# Altium schematic symbol library SamacSys.SchLib: 101 symbols (part 1 of 2)
Pins are listed as number, name and electrical type; pins without a type are passive.

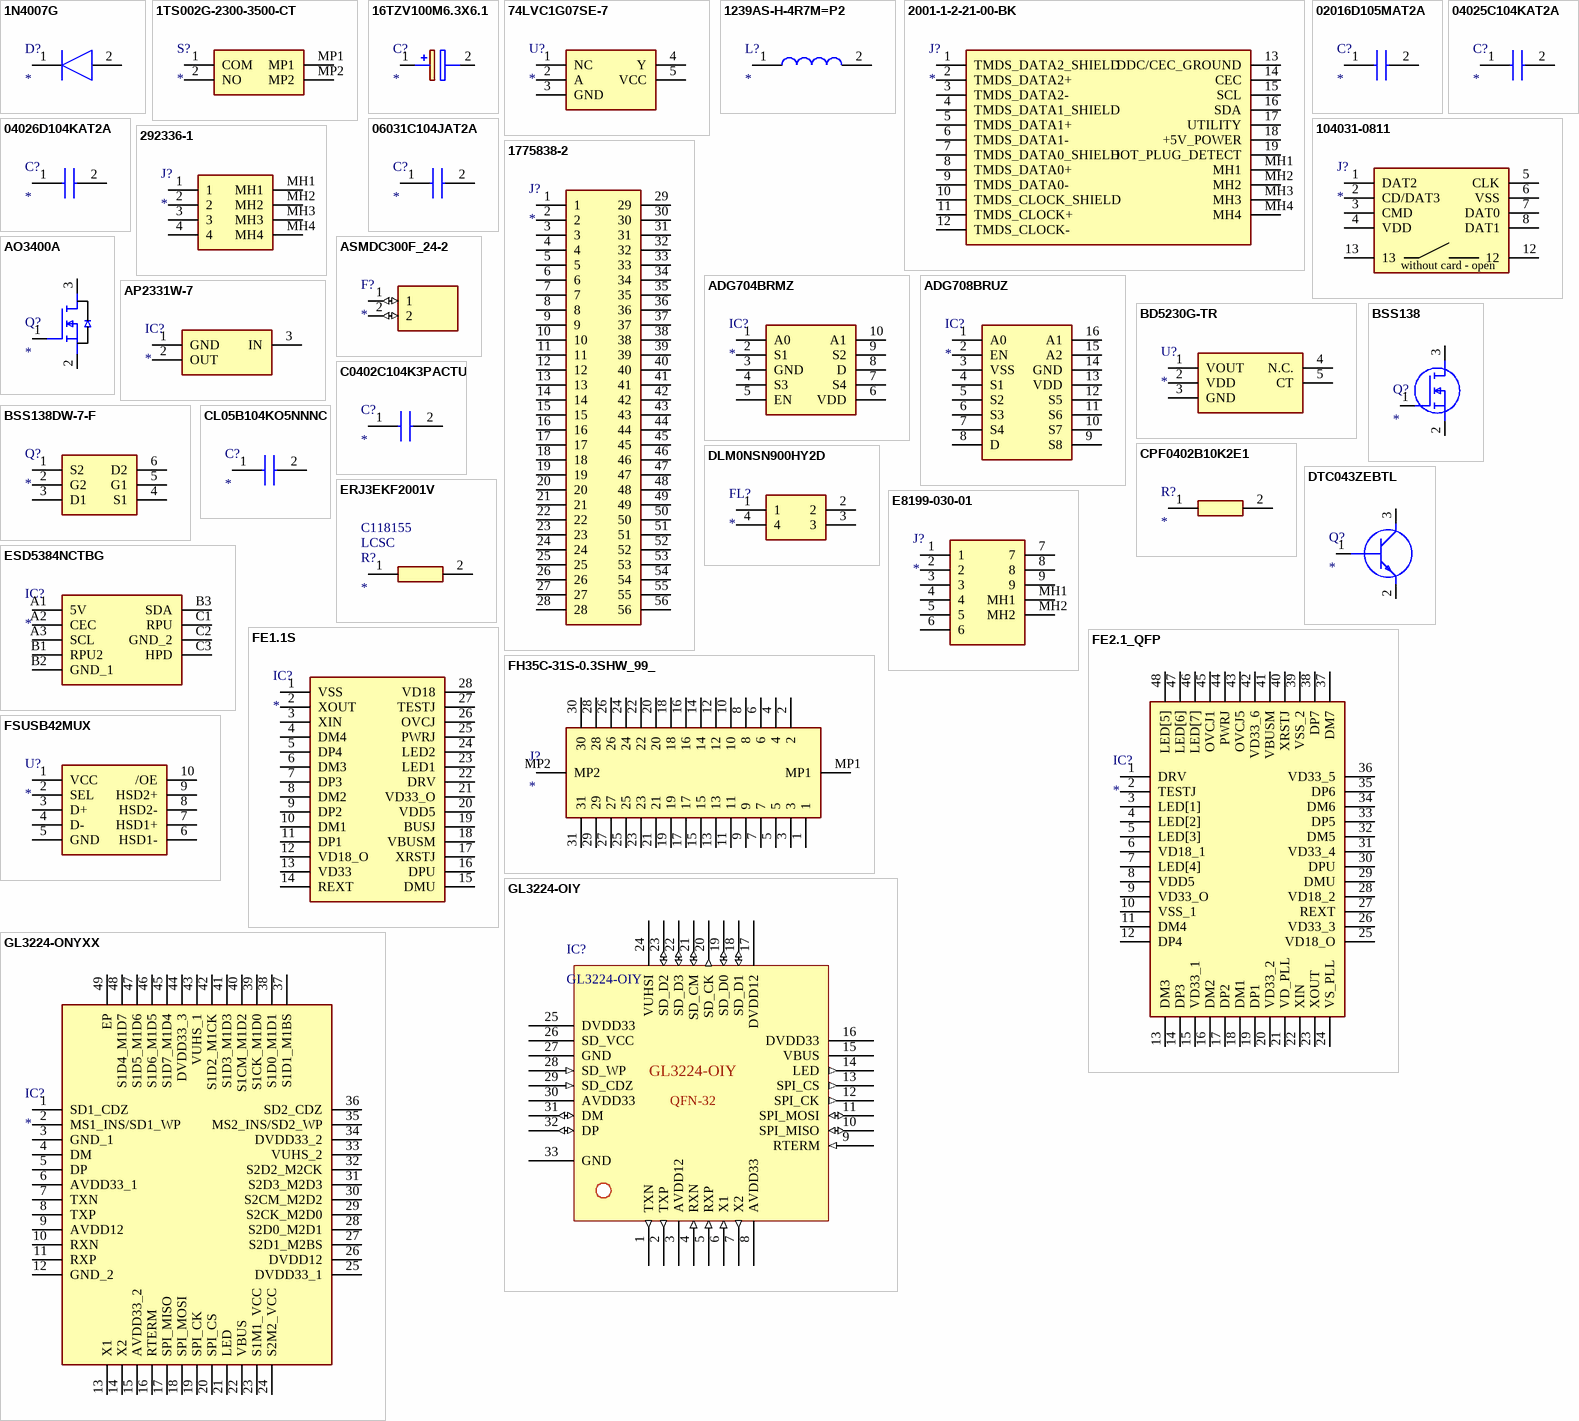
[diagram p0: symbols 1N4007G to GL3224-ONYXX]

## 1N4007G
designator D?
Diode; Manufacturer_Name: Shikues; Manufacturer_Part_Number: 1N4007G; Description: Surface Mount General Purpose Silicon Rectifiers; Datasheet Link: https://datasheet.lcsc.com/szlcsc/SK-1N4007G_C111122.pdf; Height: 2.2mm
footprint DIOM5025X220N
pins: 1 K, 2 A

## 1TS002G-2300-3500-CT
designator S?
Switch; Manufacturer_Name: HYP (Hongyuan Precision); Manufacturer_Part_Number: 1TS002G-2300-3500-CT; Datasheet Link: https://datasheet.lcsc.com/szlcsc/HYP-1TS002G-2300-3500_C319377.pdf; Height: 3.5mm
footprint 1TS002G23003500CT
pins: 1 COM, 2 NO, MP1, MP2

## 16TZV100M6.3X6.1
designator C?
Capacitor Polarised; Manufacturer_Name: Rubycon; Manufacturer_Part_Number: 16TZV100M6.3X6.1; Datasheet Link: http://www.rubycon.co.jp/catalog/j_pdfs/aluminum/j_TZV.pdf; Height: 6.1mm; Mouser Part Number: 232-16TZV100M6.3X6.1; Mouser Price/Stock: https://www.mouser.com/Search/Refine.aspx?Keyword=232-16TZV100M6.3X6.1
footprint 16TZV100M63X61
pins: 1 +, 2 -

## 74LVC1G07SE-7
designator U?
Undefined or Miscellaneous; Manufacturer_Name: Diodes Inc.; Manufacturer_Part_Number: 74LVC1G07SE-7; Datasheet Link: https://componentsearchengine.com/Datasheets/2/74LVC1G07SE-7.pdf; Height: 1.1mm; Mouser Part Number: 621-74LVC1G07SE-7; Mouser Price/Stock: https://www.mouser.co.uk/ProductDetail/Diodes-Incorporated/74LVC1G07SE-7/?qs=abZ1nkZpTuNoZmx9wrxFdA%3D%3D; Arrow Part Number: 74LVC1G07SE-7; Arrow Price/Stock: https://www.arrow.com/en/products/74lvc1g07se-7/diodes-incorporated
footprint SOT65P210X110-5N
pins: 1 NC, 2 A, 3 GND, 4 Y, 5 VCC

## 1239AS-H-4R7M=P2
designator L?
Inductor; Manufacturer_Name: Murata Electronics; Manufacturer_Part_Number: 1239AS-H-4R7M=P2; Datasheet Link: https://psearch.en.murata.com/inductor/product/1239AS-H-4R7M%23.html; Height: 1.2mm; Arrow Part Number: 1239AS-H-4R7M=P2; Arrow Price/Stock: https://www.arrow.com/en/products/1239as-h-4r7mp2/murata-manufacturing; Mouser Part Number: 81-1239AS-H-4R7MP2; Mouser Price/Stock: https://www.mouser.co.uk/ProductDetail/Murata-Electronics/1239AS-H-4R7M%3dP2?qs=KuGPmAKtFKX7SH37MciNXQ%3D%3D
footprint DFE2HCAH1R0MJ0L
pins: 1, 2

## 2001-1-2-21-00-BK
designator J?
Connector; Manufacturer_Name: CNC Tech; Manufacturer_Part_Number: 2001-1-2-21-00-BK; Datasheet Link: http://cnctech.us/pdfs/2001-1-2-21-00-BK.pdf; Height: 3.3mm
footprint 2001122100BK
pins: 1 TMDS_DATA2_SHIELD, 2 TMDS_DATA2+, 3 TMDS_DATA2-, 4 TMDS_DATA1_SHIELD, 5 TMDS_DATA1+, 6 TMDS_DATA1-, 7 TMDS_DATA0_SHIELD, 8 TMDS_DATA0+, 9 TMDS_DATA0-, 10 TMDS_CLOCK_SHIELD, 11 TMDS_CLOCK+, 12 TMDS_CLOCK-, 13 DDC/CEC_GROUND, 14 CEC, 15 SCL, 16 SDA, 17 UTILITY, 18 +5V_POWER, 19 HOT_PLUG_DETECT, MH1, MH2, MH3, MH4

## 02016D105MAT2A
designator C?
Capacitor; Manufacturer_Name: AVX; Manufacturer_Part_Number: 02016D105MAT2A; Datasheet Link: http://www.mouser.com/catalog/supplier/library/pdf/AVXSurfaceMountCeramic.pdf; Height: 0.33mm; Mouser Part Number: 581-02016D105MAT2A; Mouser Price/Stock: https://www.mouser.co.uk/ProductDetail/AVX/02016D105MAT2A?qs=RC%2FTMc7rOJYRv3ejaJ2Ykg%3D%3D; Arrow Part Number: 02016D105MAT2A; Arrow Price/Stock: https://www.arrow.com/en/products/02016d105mat2a/avx
footprint CAPC0603X33N
pins: 1, 2

## 04025C104KAT2A
designator C?
Capacitor; Manufacturer_Name: AVX; Manufacturer_Part_Number: 04025C104KAT2A; Datasheet Link: http://www.mouser.com/catalog/supplier/library/pdf/AVXSurfaceMountCeramic.pdf; Height: 0.56mm; Mouser Part Number: 581-04025C104KAT2A; Mouser Price/Stock: https://www.mouser.co.uk/ProductDetail/AVX/04025C104KAT2A?qs=ZBeOGGPQgEFYcwOskjAIVQ%3D%3D; Arrow Part Number: 04025C104KAT2A; Arrow Price/Stock: https://www.arrow.com/en/products/04025c104kat2a/avx
footprint CAPC1005X56N
pins: 1, 2

## 04026D104KAT2A
designator C?
Capacitor; Manufacturer_Name: AVX; Manufacturer_Part_Number: 04026D104KAT2A; Datasheet Link: http://www.mouser.com/catalog/supplier/library/pdf/AVXSurfaceMountCeramic.pdf; Height: 0.56mm; Mouser Part Number: 581-04026D104KAT2A; Mouser Price/Stock: https://www.mouser.co.uk/ProductDetail/AVX/04026D104KAT2A?qs=LLG2yGGJ5NhILwMziGI8Xg%3D%3D; Arrow Part Number: 04026D104KAT2A; Arrow Price/Stock: https://www.arrow.com/en/products/04026d104kat2a/avx
footprint CAPC1005X56N
pins: 1, 2

## 06031C104JAT2A
designator C?
Capacitor; Manufacturer_Name: AVX; Manufacturer_Part_Number: 06031C104JAT2A; Datasheet Link: https://componentsearchengine.com/Datasheets/1/06031A100FAT2A.pdf; Height: 0.9mm; Mouser Part Number: 581-06031C104JAT2A; Mouser Price/Stock: https://www.mouser.co.uk/ProductDetail/AVX/06031C104JAT2A?qs=%252BdQmOuGyFcHScrgcFLN%252BzA%3D%3D; Arrow Part Number: 06031C104JAT2A; Arrow Price/Stock: https://www.arrow.com/en/products/06031c104jat2a/avx
footprint CAPC1608X90N
pins: 1, 2

## 104031-0811
designator J?
Connector; Manufacturer_Name: Molex; Manufacturer_Part_Number: 104031-0811; Datasheet Link: http://www.molex.com/webdocs/datasheets/pdf/en-us/1040310811_MEMORY_CARD_SOCKET.pdf; Mouser Part Number: 538-104031-0811; Mouser Price/Stock: https://www.mouser.co.uk/ProductDetail/Molex/104031-0811?qs=udsGRKD4nA3Tvy7wqky%252BuA%3D%3D
footprint 1040310811
pins: 1 DAT2, 2 CD/DAT3, 3 CMD, 4 VDD, 5 CLK, 6 VSS, 7 DAT0, 8 DAT1, 12, 13
text: without card - open

## 292336-1
designator J?
Connector; Manufacturer_Name: TE Connectivity; Manufacturer_Part_Number: 292336-1; Allied_Number: 70087057; Datasheet Link: https://componentsearchengine.com/Datasheets/2/292336-1.pdf; Height: 12.6mm; Mouser Part Number: 571-292336-1; Mouser Price/Stock: https://www.mouser.com/Search/Refine.aspx?Keyword=571-292336-1; RS Part Number: 5298230P; RS Price/Stock: http://uk.rs-online.com/web/p/products/5298230P; Allied Price/Stock: https://www.alliedelec.com/teconnectivity-292336-1/70087057/
footprint 2923361
pins: 1, 2, 3, 4, MH1, MH2, MH3, MH4

## 1775838-2
designator J?
Connector; Manufacturer_Name: TE Connectivity; Manufacturer_Part_Number: 1775838-2; Datasheet Link: http://www.te.com/commerce/DocumentDelivery/DDEController?Action=showdoc&DocId=Customer+Drawing%7F1775838%7FH%7Fpdf%7FEnglish%7FENG_CD_1775838_H.pdf%7F1775838-2; Height: 5mm; Mouser Part Number: 571-1775838-2; Mouser Price/Stock: https://www.mouser.com/Search/Refine.aspx?Keyword=571-1775838-2; RS Part Number: 1859871; RS Price/Stock: http://uk.rs-online.com/web/p/products/1859871
footprint 17758382
pins: 1, 2, 3, 4, 5, 6, 7, 8, 9, 10, 11, 12, 13, 14, 15, 16, 17, 18, 19, 20, 21, 22, 23, 24, 25, 26, 27, 28, 29, 30, 31, 32, 33, 34, 35, 36, 37, 38, 39, 40, 41, 42, 43, 44, 45, 46, 47, 48, 49, 50, 51, 52, 53, 54, 55, 56

## ADG704BRMZ
designator IC?
Integrated Circuit; Manufacturer_Name: Analog Devices; Manufacturer_Part_Number: ADG704BRMZ; Datasheet Link: http://docs-emea.rs-online.com/webdocs/077f/0900766b8077ff01.pdf; Height: 1.1mm; Mouser Part Number: 584-ADG704BRMZ; Mouser Price/Stock: https://www.mouser.com/Search/Refine.aspx?Keyword=584-ADG704BRMZ; RS Part Number: 5238761P; RS Price/Stock: http://uk.rs-online.com/web/p/products/5238761P
footprint SOP50P490X110-10N
pins: 1 A0, 2 S1, 3 GND (power), 4 S3, 5 EN, 6 VDD (power), 7 S4, 8 D, 9 S2, 10 A1

## ADG708BRUZ
designator IC?
Integrated Circuit; Manufacturer_Name: Analog Devices; Manufacturer_Part_Number: ADG708BRUZ; Datasheet Link: http://www.analog.com/static/imported-files/data_sheets/ADG708_709.pdf; Height: 1.2mm; Mouser Part Number: 584-ADG708BRUZ; Mouser Price/Stock: https://www.mouser.com/Search/Refine.aspx?Keyword=584-ADG708BRUZ; RS Part Number: 4973918P; RS Price/Stock: http://uk.rs-online.com/web/p/products/4973918P
footprint SOP65P640X120-16N
pins: 1 A0, 2 EN, 3 VSS (power), 4 S1, 5 S2, 6 S3, 7 S4, 8 D, 9 S8, 10 S7, 11 S6, 12 S5, 13 VDD (power), 14 GND (power), 15 A2, 16 A1

## AO3400A
designator Q?
MOSFET (N-Channel); Manufacturer_Name: Alpha & Omega Semiconductors; Manufacturer_Part_Number: AO3400A; Description: 30V N-Channel MOSFET; Datasheet Link: http://aosmd.com/res/data_sheets/AO3400A.pdf; Height: 1.25mm; Arrow Part Number: AO3400A; Arrow Price/Stock: https://www.arrow.com/en/products/ao3400a/alpha-and-omega-semiconductor
footprint SOT95P280X125-3N
pins: 1 G, 2 S, 3 D

## AP2331W-7
designator IC?
Integrated Circuit; Manufacturer_Name: Diodes Inc.; Manufacturer_Part_Number: AP2331W-7; Datasheet Link: https://componentsearchengine.com/Datasheets/1/AP2331W-7.pdf; Height: 1.3mm; Mouser Part Number: 621-AP2331W-7; Mouser Price/Stock: https://www.mouser.com/Search/Refine.aspx?Keyword=621-AP2331W-7; RS Part Number: 8287665P; RS Price/Stock: http://uk.rs-online.com/web/p/products/8287665P
footprint SOT95P285X130-3N
pins: 1 GND, 2 OUT, 3 IN

## ASMDC300F_24-2
designator F?
Fuse; Manufacturer_Name: LITTELFUSE; Manufacturer_Part_Number: ASMDC300F/24-2; Datasheet Link: https://www.littelfuse.com/~/media/electronics/product_specifications/resettable_ptcs/littelfuse_ptc_asmdc300f24_product_specification.pdf.pdf; Height: 1.1mm; Mouser Part Number: 650-ASMDC300F/24-2; Mouser Price/Stock: https://www.mouser.com/Search/Refine.aspx?Keyword=650-ASMDC300F%2F24-2
footprint FUSC7551X110N
pins: 1 (io), 2 (io)

## BD5230G-TR
designator U?
Undefined or Miscellaneous; Manufacturer_Name: ROHM Semiconductor; Manufacturer_Part_Number: BD5230G-TR; Allied_Number: 70521933; Datasheet Link: http://rohmfs.rohm.com/en/products/databook/datasheet/ic/power/voltage_detector/bd52xxg-e.pdf; Height: 1.25mm; Mouser Part Number: 755-BD5230G-TR; Mouser Price/Stock: https://www.mouser.com/Search/Refine.aspx?Keyword=755-BD5230G-TR; RS Part Number: 7003132P; RS Price/Stock: http://uk.rs-online.com/web/p/products/7003132P; Allied Price/Stock: https://www.alliedelec.com/rohm-semiconductor-bd5230g-tr/70521933/
footprint SOT95P280X125-5N
pins: 1 VOUT, 2 VDD, 3 GND, 4 N.C., 5 CT

## BSS138
designator Q?
MOSFET (N-Channel); Manufacturer_Name: ON Semiconductor; Manufacturer_Part_Number: BSS138; Datasheet Link: https://www.onsemi.com/pub/Collateral/BSS138-D.PDF; Height: 1.2mm; Mouser Part Number: 512-BSS138; Mouser Price/Stock: https://www.mouser.com/Search/Refine.aspx?Keyword=512-BSS138; RS Part Number: 6710324P; RS Price/Stock: http://uk.rs-online.com/web/p/products/6710324P
footprint SOT95P240X120-3N
pins: 1 G, 2 S, 3 D

## BSS138DW-7-F
designator Q?
Transistor; Manufacturer_Name: Diodes Inc.; Manufacturer_Part_Number: BSS138DW-7-F; Datasheet Link: http://uk.rs-online.com/web/p/products/1219436; Height: 1.1mm; Arrow Part Number: BSS138DW-7-F; Arrow Price/Stock: https://www.arrow.com/en/products/bss138dw-7-f/diodes-incorporated; Mouser Part Number: 621-BSS138DW-F; Mouser Price/Stock: https://www.mouser.co.uk/ProductDetail/Diodes-Incorporated/BSS138DW-7-F?qs=rGAXPo9uwV10UlZnPRLyGg%3D%3D
footprint SOT65P210X110-6N
pins: 1 S2, 2 G2, 3 D1, 4 S1, 5 G1, 6 D2

## C0402C104K3PACTU
designator C?
Capacitor; Manufacturer_Name: Kemet; Manufacturer_Part_Number: C0402C104K3PACTU; Datasheet Link: https://content.kemet.com/datasheets/KEM_C1002_X7R_SMD.pdf; Height: 0.55mm; Mouser Part Number: 80-C0402C104K3P; Mouser Price/Stock: https://www.mouser.co.uk/ProductDetail/KEMET/C0402C104K3PACTU?qs=gt1LBUVyoHnkmt1KfrmtmQ%3D%3D; Arrow Part Number: C0402C104K3PACTU; Arrow Price/Stock: https://www.arrow.com/en/products/c0402c104k3pactu/kemet-corporation
footprint CAPC1005X55N
pins: 1, 2

## CL05B104KO5NNNC
designator C?
Capacitor; Manufacturer_Name: Samsung Electro-Mechanics; Manufacturer_Part_Number: CL05B104KO5NNNC; Datasheet Link: http://www.samsungsem.com/kr/support/product-search/mlcc/CL05B104KO5NNNC.jsp; Height: 0.55mm; Mouser Part Number: N/A; Mouser Price/Stock: https://www.mouser.com/Search/Refine.aspx?Keyword=N%2FA; RS Part Number: 7661299; RS Price/Stock: http://uk.rs-online.com/web/p/products/7661299
footprint CAPC1005X55N
pins: 1, 2

## CPF0402B10K2E1
designator R?
Resistor; Manufacturer_Name: TE Connectivity; Manufacturer_Part_Number: CPF0402B10K2E1; Allied_Number: 70286155; Datasheet Link: http://www.farnell.com/datasheets/1786775.pdf; Height: 0.35mm; Mouser Part Number: 279-CPF0402B10K2E1; Mouser Price/Stock: https://www.mouser.com/Search/Refine.aspx?Keyword=279-CPF0402B10K2E1; RS Part Number: 7015028P; RS Price/Stock: http://uk.rs-online.com/web/p/products/7015028P; Allied Price/Stock: https://www.alliedelec.com/te-connectivity-cpf0402b10k2e1/70286155/
footprint RESC1005X35N
pins: 1, 2

## DLM0NSN900HY2D
designator FL?
Filter; Manufacturer_Name: Murata Electronics; Manufacturer_Part_Number: DLM0NSN900HY2D; Datasheet Link: https://www.murata.com/en-us/products/productdetail?partno=DLM0NSN900HY2%23; Height: 0.5mm; Arrow Part Number: DLM0NSN900HY2D; Arrow Price/Stock: https://www.arrow.com/en/products/dlm0nsn900hy2d/murata-manufacturing; Mouser Part Number: 81-DLM0NSN900HY2D; Mouser Price/Stock: https://www.mouser.co.uk/ProductDetail/Murata-Electronics/DLM0NSN900HY2D?qs=lEfY3O89AqnvSXN6mgZhNw%3D%3D
footprint DLM0NSB120HY2B
pins: 1, 2, 3, 4

## DTC043ZEBTL
designator Q?
Transistor BJT NPN; Manufacturer_Name: ROHM Semiconductor; Manufacturer_Part_Number: DTC043ZEBTL; Datasheet Link: http://rohmfs.rohm.com/en/products/databook/datasheet/discrete/transistor/digital/dtc043zmt2l-e.pdf; Height: 0.85mm; Arrow Part Number: DTC043ZEBTL; Mouser Part Number: 755-DTC043ZEBTL; Mouser Price/Stock: https://www.mouser.co.uk/ProductDetail/ROHM-Semiconductor/DTC043ZEBTL?qs=n7vHx8wJlDGyWrBOh0icRQ%3D%3D
footprint SOTFL50P160X85-3N
pins: 1 B, 2 E, 3 C

## E8199-030-01
designator J?
Connector; Manufacturer_Name: Pulse; Manufacturer_Part_Number: E8199-030-01; Datasheet Link: https://productfinder.pulseeng.com/doc_type/WEB301/doc_num/E8199-030-01/doc_part/E8199-030-01.pdf; Height: 12.9mm; Mouser Part Number: 673-E8199-030-01; Mouser Price/Stock: https://www.mouser.co.uk/ProductDetail/Pulse-Electronics/E8199-030-01?qs=fi7yB2oewZks%2FMZaaPk%2FJA%3D%3D; Arrow Part Number: E8199-030-01; Arrow Price/Stock: https://www.arrow.com/en/products/e8199-030-01/pulse-electronics-corporation
footprint E819903001
pins: 1, 2, 3, 4, 5, 6, 7, 8, 9, MH1, MH2

## ERJ3EKF2001V
designator R?  Supplier 1: LCSC  Supplier Part Number 1: C118155
Resistor; Manufacturer_Name: Panasonic; Manufacturer_Part_Number: ERJ3EKF2001V; Allied_Number: 70264628; Datasheet Link: http://industrial.panasonic.com/cdbs/www-data/pdf/RDA0000/AOA0000C86.pdf; Height: 0.55mm; RS Part Number: 1058464; RS Price/Stock: http://uk.rs-online.com/web/p/products/1058464; Allied Price/Stock: https://www.alliedelec.com/panasonic-erj-3ekf2001v/70264628/
footprint RESC1608X55N
pins: 1, 2

## ESD5384NCTBG
designator IC?
Integrated Circuit; Manufacturer_Name: ON Semiconductor; Manufacturer_Part_Number: ESD5384NCTBG; Allied_Number: 70466034; Datasheet Link: http://www.onsemi.com/pub/Collateral/ESD5384-D.PDF; Height: 0.63mm; Mouser Part Number: 863-ESD5384NCTBG; Mouser Price/Stock: https://www.mouser.com/Search/Refine.aspx?Keyword=863-ESD5384NCTBG; RS Part Number: 8010213P; RS Price/Stock: http://uk.rs-online.com/web/p/products/8010213P; Allied Price/Stock: http://www.alliedelec.com/on-semiconductor-esd5384nctbg/70466034/
footprint BGA9C40P3X3_114X114X63
pins: A1 5V, A2 CEC, A3 SCL, B1 RPU2, B2 GND_1 (power), B3 SDA, C1 RPU, C2 GND_2 (power), C3 HPD

## FE1.1S
designator IC?
Integrated Circuit; Manufacturer_Name: JFD IC; Manufacturer_Part_Number: FE1.1S; Datasheet Link: https://cdn-shop.adafruit.com/product-files/2991/FE1.1s+Data+Sheet+(Rev.+1.0).pdf; Height: 1.75mm
footprint SOP64P600X175-28N
pins: 1 VSS, 2 XOUT, 3 XIN, 4 DM4, 5 DP4, 6 DM3, 7 DP3, 8 DM2, 9 DP2, 10 DM1, 11 DP1, 12 VD18_O, 13 VD33, 14 REXT, 15 DMU, 16 DPU, 17 XRSTJ, 18 VBUSM, 19 BUSJ, 20 VDD5, 21 VD33_O, 22 DRV, 23 LED1, 24 LED2, 25 PWRJ, 26 OVCJ, 27 TESTJ, 28 VD18

## FE2.1_QFP
designator IC?
Integrated Circuit; Manufacturer_Name: Terminus Technology; Manufacturer_Part_Number: FE2.1_QFP; Datasheet Link: http://www.35ic.net/ui/docs/assets/img/1458708200035.PDF; Height: 1.6mm
footprint QFP50P900X900X160-48N
pins: 1 DRV, 2 TESTJ, 3 LED[1], 4 LED[2], 5 LED[3], 6 VD18_1, 7 LED[4], 8 VDD5, 9 VD33_O, 10 VSS_1, 11 DM4, 12 DP4, 13 DM3, 14 DP3, 15 VD33_1, 16 DM2, 17 DP2, 18 DM1, 19 DP1, 20 VD33_2, 21 VD_PLL, 22 XIN, 23 XOUT, 24 VS_PLL, 25 VD18_O, 26 VD33_3, 27 REXT, 28 VD18_2, 29 DMU, 30 DPU, 31 VD33_4, 32 DM5, 33 DP5, 34 DM6, 35 DP6, 36 VD33_5, 37 DM7, 38 DP7, 39 VSS_2, 40 XRSTJ, 41 VBUSM, 42 VD33_6, 43 OVCJ5, 44 PWRJ, 45 OVCJ1, 46 LED[7], 47 LED[6], 48 LED[5]

## FH35C-31S-0.3SHW_99_
designator J?
Connector; Manufacturer_Name: Hirose; Manufacturer_Part_Number: FH35C-31S-0.3SHW(99); Datasheet Link: https://www.hirose.com/product/document?clcode=CL0580-2923-7-99&productname=FH35C-31S-0.3SHW(99)&series=FH35C&documenttype=2DDrawing&lang=en&documentid=0001002013; Height: 1.8mm; Mouser Part Number: 798-FH35C31S03SHW99; Mouser Price/Stock: https://www.mouser.com/Search/Refine.aspx?Keyword=798-FH35C31S03SHW99
footprint FH35C31S03SHW99
pins: 1, 2, 3, 4, 5, 6, 7, 8, 9, 10, 11, 12, 13, 14, 15, 16, 17, 18, 19, 20, 21, 22, 23, 24, 25, 26, 27, 28, 29, 30, 31, MP1, MP2

## FSUSB42MUX
designator U?
Undefined or Miscellaneous; Manufacturer_Name: ON Semiconductor; Manufacturer_Part_Number: FSUSB42MUX; Datasheet Link: https://componentsearchengine.com/Datasheets/2/FSUSB42MUX.pdf; Height: 1.1mm; Mouser Part Number: 512-FSUSB42MUX; Mouser Price/Stock: https://www.mouser.com/Search/Refine.aspx?Keyword=512-FSUSB42MUX; RS Part Number: 7395144P; RS Price/Stock: http://uk.rs-online.com/web/p/products/7395144P
footprint SOP50P490X110-10N
pins: 1 VCC, 2 SEL, 3 D+, 4 D-, 5 GND, 6 HSD1-, 7 HSD1+ (power), 8 HSD2-, 9 HSD2+, 10 /OE

## GL3224-OIY
designator IC?
Integrated Ciruit
footprint QFN50P500X500X75_HS-33N (QFN, 32-Leads, Body 5.00x5.00mm, Pitch 0.50mm, Thermal Pad 3.00x3.00mm, IPC Medium Density)
pins: 1 TXN (out), 2 TXP (out), 3 AVDD12 (power), 4 RXN (in), 5 RXP (in), 6 X1 (in), 7 X2 (out), 8 AVDD33 (power), 9 RTERM (in), 10 SPI_MISO (io), 11 SPI_MOSI (io), 12 SPI_CK (out), 13 SPI_CS (out), 14 LED (out), 15 VBUS (power), 16 DVDD33 (power), 17 DVDD12 (power), 18 SD_D1 (io), 19 SD_D0 (io), 20 SD_CK (out), 21 SD_CM (io), 22 SD_D3 (io), 23 SD_D2 (io), 24 VUHSI (power), 25 DVDD33 (power), 26 SD_VCC (power), 27 GND (power), 28 SD_WP (in), 29 SD_CDZ (in), 30 AVDD33 (power), 31 DM (io), 32 DP (io), 33 GND
text: QFN-32

## GL3224-ONYXX
designator IC?
Integrated Circuit; Manufacturer_Name: Genesys; Manufacturer_Part_Number: GL3224-ONYXX; Datasheet Link: http://www.image.micros.com.pl/_dane_techniczne_auto/uigl3224-oiy.pdf; Height: 0.8mm
footprint QFN50P700X700X80-49N
pins: 1 SD1_CDZ, 2 MS1_INS/SD1_WP, 3 GND_1, 4 DM, 5 DP, 6 AVDD33_1, 7 TXN, 8 TXP, 9 AVDD12, 10 RXN, 11 RXP, 12 GND_2, 13 X1, 14 X2, 15 AVDD33_2, 16 RTERM, 17 SPI_MISO, 18 SPI_MOSI, 19 SPI_CK, 20 SPI_CS, 21 LED, 22 VBUS, 23 S1M1_VCC, 24 S2M2_VCC, 25 DVDD33_1, 26 DVDD12, 27 S2D1_M2BS, 28 S2D0_M2D1, 29 S2CK_M2D0, 30 S2CM_M2D2, 31 S2D3_M2D3, 32 S2D2_M2CK, 33 VUHS_2, 34 DVDD33_2, 35 MS2_INS/SD2_WP, 36 SD2_CDZ, 37 S1D1_M1BS, 38 S1D0_M1D1, 39 S1CK_M1D0, 40 S1CM_M1D2, 41 S1D3_M1D3, 42 S1D2_M1CK, 43 VUHS_1, 44 DVDD33_3, 45 S1D7_M1D4, 46 S1D6_M1D5, 47 S1D5_M1D6, 48 S1D4_M1D7, 49 EP

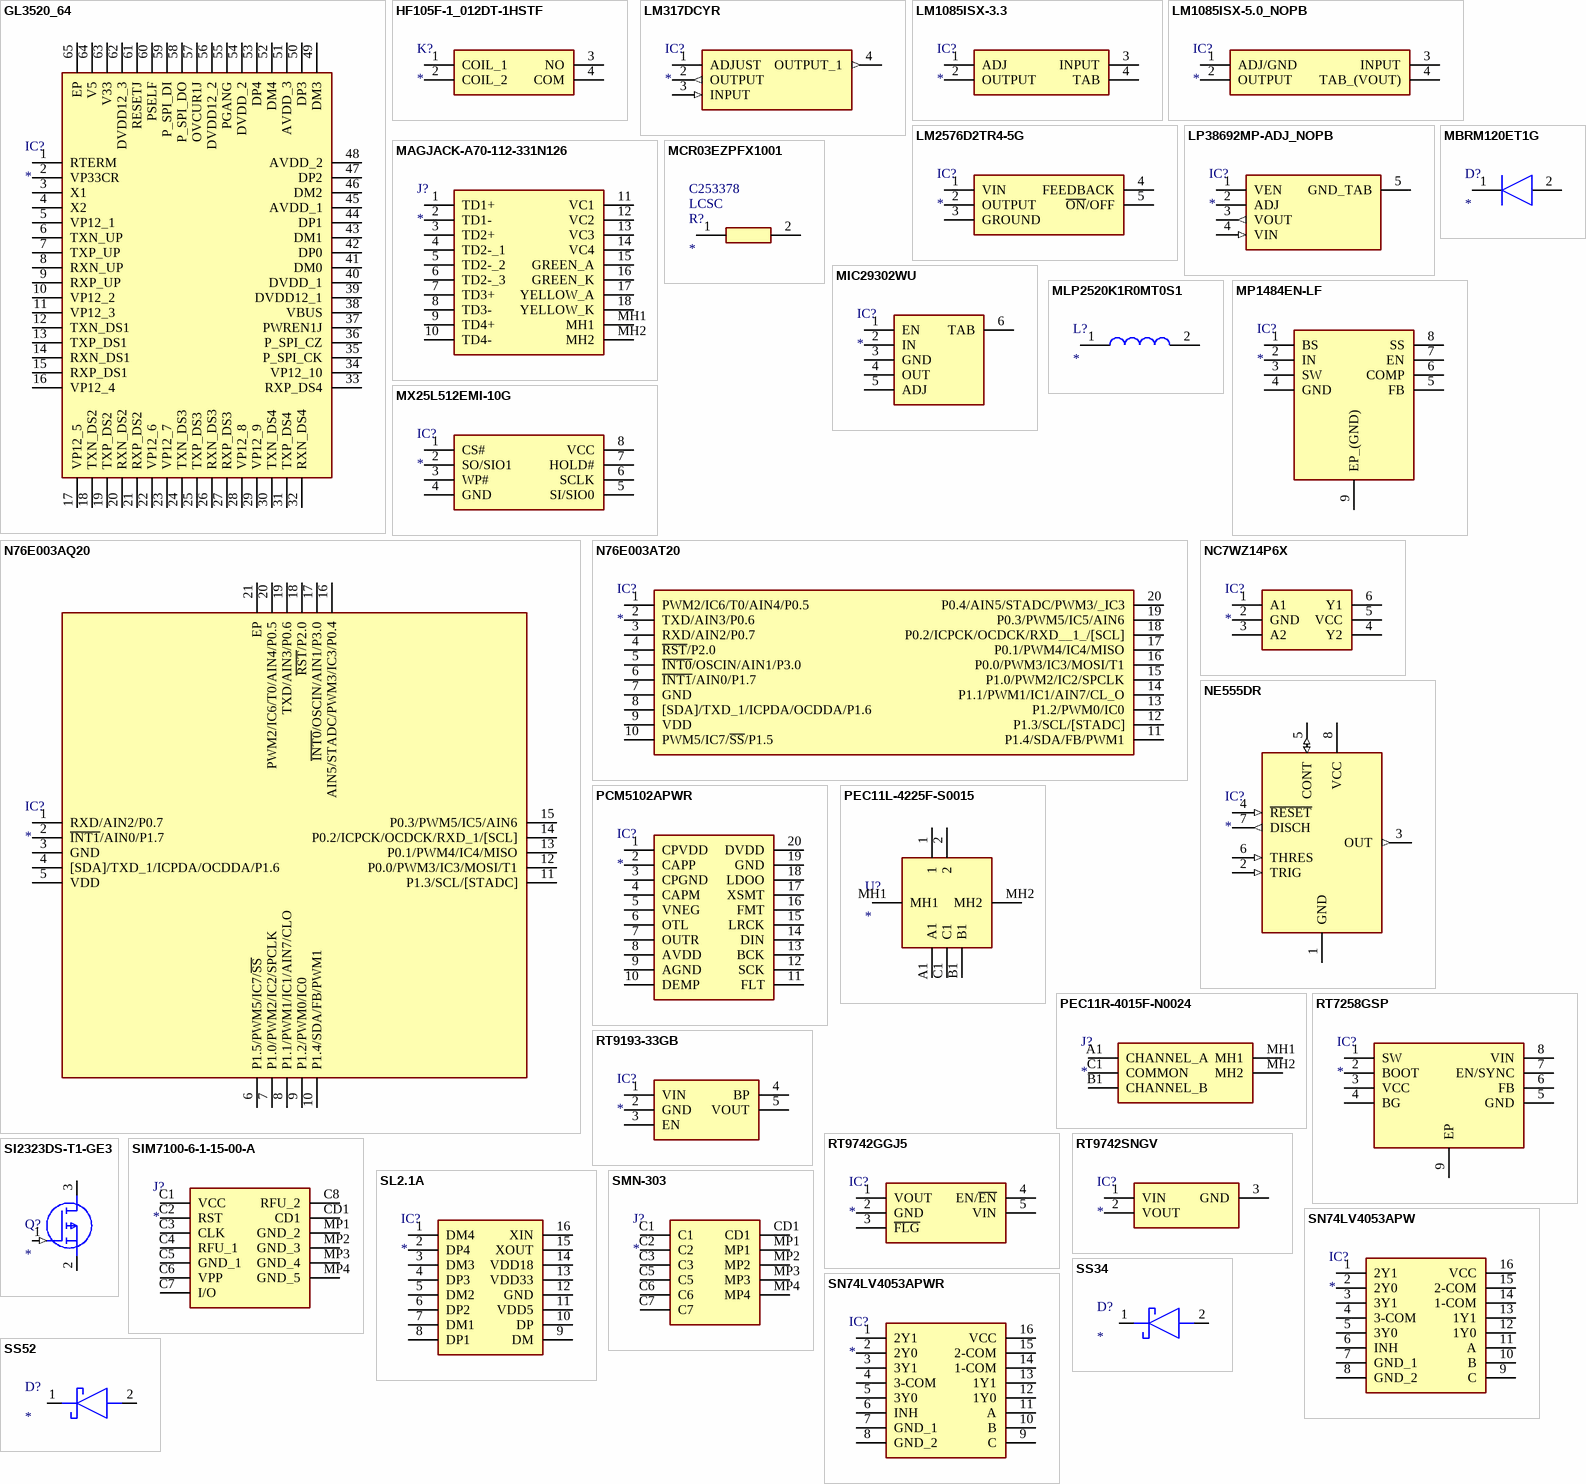
[diagram p1: symbols GL3520_64 to SS52]

## GL3520_64
designator IC?
Integrated Circuit; Manufacturer_Name: Genesys; Manufacturer_Part_Number: GL3520 64; Datasheet Link: https://datasheet.lcsc.com/szlcsc/Genesys-Logic-GL3520-OVY22_C136620.pdf; Height: 0.8mm
footprint QFN40P800X800X80-65N-D
pins: 1 RTERM, 2 VP33CR, 3 X1, 4 X2, 5 VP12_1, 6 TXN_UP, 7 TXP_UP, 8 RXN_UP, 9 RXP_UP, 10 VP12_2, 11 VP12_3, 12 TXN_DS1, 13 TXP_DS1, 14 RXN_DS1, 15 RXP_DS1, 16 VP12_4, 17 VP12_5, 18 TXN_DS2, 19 TXP_DS2, 20 RXN_DS2, 21 RXP_DS2, 22 VP12_6, 23 VP12_7, 24 TXN_DS3, 25 TXP_DS3, 26 RXN_DS3, 27 RXP_DS3, 28 VP12_8, 29 VP12_9, 30 TXN_DS4, 31 TXP_DS4, 32 RXN_DS4, 33 RXP_DS4, 34 VP12_10, 35 P_SPI_CK, 36 P_SPI_CZ, 37 PWREN1J, 38 VBUS, 39 DVDD12_1, 40 DVDD_1, 41 DM0, 42 DP0, 43 DM1, 44 DP1, 45 AVDD_1, 46 DM2, 47 DP2, 48 AVDD_2, 49 DM3, 50 DP3, 51 AVDD_3, 52 DM4, 53 DP4, 54 DVDD_2, 55 PGANG, 56 DVDD12_2, 57 OVCUR1J, 58 P_SPI_DO, 59 P_SPI_DI, 60 PSELF, 61 RESETJ, 62 DVDD12_3, 63 V33, 64 V5, 65 EP

## HF105F-1_012DT-1HSTF
designator K?
Relay or Contactor; Manufacturer_Name: Hongfa; Manufacturer_Part_Number: HF105F-1/012DT-1HSTF; Datasheet Link: https://4donline.ihs.com/images/VipMasterIC/IC/XIMD/XIMD-S-A0007315443/XIMD-S-A0007315443-1.pdf?hkey=EF798316E3902B6ED9A73243A3159BB0; Height: 20.2mm
footprint HF105F1012DT1HSTF
pins: 1 COIL_1, 2 COIL_2, 3 NO, 4 COM

## LM317DCYR
designator IC?
Integrated Circuit; Manufacturer_Name: Texas Instruments; Manufacturer_Part_Number: LM317DCYR; Datasheet Link: http://www.ti.com/lit/ds/symlink/lm317.pdf; Height: 1.8mm; Mouser Part Number: 595-LM317DCYR; Mouser Price/Stock: https://www.mouser.com/Search/Refine.aspx?Keyword=595-LM317DCYR; RS Part Number: 6613627P; RS Price/Stock: http://uk.rs-online.com/web/p/products/6613627P
footprint SOT230P700X180-4N
pins: 1 ADJUST, 2 OUTPUT (out), 3 INPUT (in), 4 OUTPUT_1 (out)

## LM1085ISX-3.3
designator IC?
Integrated Circuit; Manufacturer_Name: Texas Instruments; Manufacturer_Part_Number: LM1085ISX-3.3; Datasheet Link: http://www.ti.com/lit/ds/symlink/lm1085.pdf; Mouser Part Number: 926-LM1085ISX-33; Mouser Price/Stock: https://www.mouser.com/Search/Refine.aspx?Keyword=926-LM1085ISX-33
footprint KTT0003B
pins: 1 ADJ, 2 OUTPUT, 3 INPUT, 4 TAB

## LM1085ISX-5.0_NOPB
designator IC?
Integrated Circuit; Manufacturer_Name: Texas Instruments; Manufacturer_Part_Number: LM1085ISX-5.0/NOPB; Datasheet Link: http://www.ti.com/lit/gpn/lm1085; Mouser Part Number: 926-LM1085ISX50NOPB; Mouser Price/Stock: https://www.mouser.com/Search/Refine.aspx?Keyword=926-LM1085ISX50NOPB
footprint KTT0003B
pins: 1 ADJ/GND, 2 OUTPUT, 3 INPUT, 4 TAB_(VOUT)

## LM2576D2TR4-5G
designator IC?
Integrated Circuit; Manufacturer_Name: ON Semiconductor; Manufacturer_Part_Number: LM2576D2TR4-5G; Datasheet Link: http://www.mouser.com/ds/2/308/LM2576-D-75194.pdf; Mouser Part Number: 863-LM2576D2TR4-5G; Mouser Price/Stock: https://www.mouser.com/Search/Refine.aspx?Keyword=863-LM2576D2TR4-5G; RS Part Number: 1869624P; RS Price/Stock: http://uk.rs-online.com/web/p/products/1869624P
footprint D2TSUFFIX-CASE936A-02-ISSUEC
pins: 1 VIN, 2 OUTPUT, 3 GROUND, 4 FEEDBACK, 5 ~{ON}/OFF

## LP38692MP-ADJ_NOPB
designator IC?
Integrated Circuit; Manufacturer_Name: Texas Instruments; Manufacturer_Part_Number: LP38692MP-ADJ/NOPB; Datasheet Link: http://www.ti.com/lit/ds/symlink/lp38692-adj.pdf; Height: 1.8mm; Mouser Part Number: 926-38692MP-ADJ/NOPB; Mouser Price/Stock: https://www.mouser.com/Search/Refine.aspx?Keyword=926-38692MP-ADJ%2FNOPB; RS Part Number: 5379171P; RS Price/Stock: http://uk.rs-online.com/web/p/products/5379171P
footprint SOT150P700X180-5N
pins: 1 VEN, 2 ADJ, 3 VOUT (out), 4 VIN (in), 5 GND_TAB (power)

## MAGJACK-A70-112-331N126
designator J?
Connector; Manufacturer_Name: Bel Magnetic Solutions; Manufacturer_Part_Number: MAGJACK-A70-112-331N126; Datasheet Link: http://www.link-pp.com/upload/file/20180411/20180411182938293829.pdf; Height: 13.3mm
footprint MAGJACKA70112331N126
pins: 1 TD1+, 2 TD1-, 3 TD2+, 4 TD2-_1, 5 TD2-_2, 6 TD2-_3, 7 TD3+, 8 TD3-, 9 TD4+, 10 TD4-, 11 VC1, 12 VC2, 13 VC3, 14 VC4, 15 GREEN_A, 16 GREEN_K, 17 YELLOW_A, 18 YELLOW_K, MH1, MH2

## MBRM120ET1G
designator D?
Diode; Manufacturer_Name: ON Semiconductor; Manufacturer_Part_Number: MBRM120ET1G; Datasheet Link: https://www.onsemi.com/pub/Collateral/MBRM120E-D.PDF; Arrow Part Number: MBRM120ET1G; Arrow Price/Stock: https://www.arrow.com/en/products/mbrm120et1g/on-semiconductor; Mouser Part Number: 863-MBRM120ET1G; Mouser Price/Stock: https://www.mouser.co.uk/ProductDetail/ON-Semiconductor/MBRM120ET1G?qs=3JMERSakeboGhtO%252BnVDl7w%3D%3D
footprint MBRM110LT1G
pins: 1 K, 2 A

## MCR03EZPFX1001
designator R?  Supplier 1: LCSC  Supplier Part Number 1: C253378
Resistor; Manufacturer_Name: ROHM Semiconductor; Manufacturer_Part_Number: MCR03EZPFX1001; Datasheet Link: http://docs-emea.rs-online.com/webdocs/1471/0900766b814716e9.pdf; Height: 0.55mm; RS Part Number: 9013553P; RS Price/Stock: http://uk.rs-online.com/web/p/products/9013553P
footprint RESC1608X55N
pins: 1, 2

## MIC29302WU
designator IC?
Integrated Circuit; Manufacturer_Name: Microchip; Manufacturer_Part_Number: MIC29302WU; Datasheet Link: http://docs-emea.rs-online.com/webdocs/13e4/0900766b813e4201.pdf; Mouser Part Number: 998-MIC29302WU; Mouser Price/Stock: https://www.mouser.com/Search/Refine.aspx?Keyword=998-MIC29302WU; RS Part Number: 0453574; RS Price/Stock: http://uk.rs-online.com/web/p/products/0453574
footprint 6-PIN-TO-263
pins: 1 EN, 2 IN, 3 GND, 4 OUT, 5 ADJ, 6 TAB

## MLP2520K1R0MT0S1
designator L?
Inductor; Manufacturer_Name: TDK; Manufacturer_Part_Number: MLP2520K1R0MT0S1; Datasheet Link: https://www.arrow.com/en/products/mlp2520k1r0mt0s1/tdk; Height: 1mm; Arrow Part Number: MLP2520K1R0MT0S1; Arrow Price/Stock: https://www.arrow.com/en/products/mlp2520k1r0mt0s1/tdk; Mouser Part Number: 810-MLP2520K1R0MT0S1; Mouser Price/Stock: https://www.mouser.com/Search/Refine.aspx?Keyword=810-MLP2520K1R0MT0S1
footprint INDC2520X100N
pins: 1, 2

## MP1484EN-LF
designator IC?
Integrated Circuit; Manufacturer_Name: Monolithic Power Systems (MPS); Manufacturer_Part_Number: MP1484EN-LF; Datasheet Link: http://www.mouser.com/datasheet/2/277/MP1484-1186021.pdf; Height: 1.7mm; Mouser Part Number: 946-MP1484ENLF; Mouser Price/Stock: https://www.mouser.com/Search/Refine.aspx?Keyword=946-MP1484ENLF
footprint SOIC127P600X170-9N
pins: 1 BS, 2 IN, 3 SW, 4 GND, 5 FB, 6 COMP, 7 EN, 8 SS, 9 EP_(GND)

## MX25L512EMI-10G
designator IC?
Integrated Circuit; Manufacturer_Name: Macronix; Manufacturer_Part_Number: MX25L512EMI-10G; Datasheet Link: https://www.macronix.com/Lists/Datasheet/Attachments/7398/MX25L512E,%203V,%20512Kb,%20v1.4.pdf; Height: 1.75mm; Arrow Part Number: MX25L512EMI-10G; Arrow Price/Stock: https://www.arrow.com/en/products/mx25l512emi-10g/macronix-international
footprint SOIC127P600X175-8N
pins: 1 CS#, 2 SO/SIO1, 3 WP#, 4 GND, 5 SI/SIO0, 6 SCLK, 7 HOLD#, 8 VCC

## N76E003AQ20
designator IC?
Integrated Circuit; Manufacturer_Name: Nuvoton; Manufacturer_Part_Number: N76E003AQ20; Datasheet Link: http://www.nuvoton.com/hq/resource-download.jsp?tp_GUID=DA00-N76E003; Height: 0.8mm
footprint QFN40P300X300X80-21N
pins: 1 RXD/AIN2/P0.7, 2 ~{INT1}/AIN0/P1.7, 3 GND, 4 [SDA]/TXD_1/ICPDA/OCDDA/P1.6, 5 VDD, 6 P1.5/PWM5/IC7/~{SS}, 7 P1.0/PWM2/IC2/SPCLK, 8 P1.1/PWM1/IC1/AIN7/CLO, 9 P1.2/PWM0/IC0, 10 P1.4/SDA/FB/PWM1, 11 P1.3/SCL/[STADC], 12 P0.0/PWM3/IC3/MOSI/T1, 13 P0.1/PWM4/IC4/MISO, 14 P0.2/ICPCK/OCDCK/RXD_1/[SCL], 15 P0.3/PWM5/IC5/AIN6, 16 AIN5/STADC/PWM3/IC3/P0.4, 17 ~{INT0}/OSCIN/AIN1/P3.0, 18 ~{RST}/P2.0, 19 TXD/AIN3/P0.6, 20 PWM2/IC6/T0/AIN4/P0.5, 21 EP

## N76E003AT20
designator IC?
Integrated Circuit; Manufacturer_Name: Nuvoton; Manufacturer_Part_Number: N76E003AT20; Datasheet Link: http://www.nuvoton.com/resource-files/DS_N76E003_EN_Rev1.00.pdf; Height: 1.2mm
footprint SOP65P640X120-20N
pins: 1 PWM2/IC6/T0/AIN4/P0.5, 2 TXD/AIN3/P0.6, 3 RXD/AIN2/P0.7, 4 ~{RST}/P2.0, 5 ~{INT0}/OSCIN/AIN1/P3.0, 6 ~{INT1}/AIN0/P1.7, 7 GND, 8 [SDA]/TXD_1/ICPDA/OCDDA/P1.6, 9 VDD, 10 PWM5/IC7/~{SS}/P1.5, 11 P1.4/SDA/FB/PWM1, 12 P1.3/SCL/[STADC], 13 P1.2/PWM0/IC0, 14 P1.1/PWM1/IC1/AIN7/CL_O, 15 P1.0/PWM2/IC2/SPCLK, 16 P0.0/PWM3/IC3/MOSI/T1, 17 P0.1/PWM4/IC4/MISO, 18 P0.2/ICPCK/OCDCK/RXD__1_/[SCL], 19 P0.3/PWM5/IC5/AIN6, 20 P0.4/AIN5/STADC/PWM3/_IC3

## NC7WZ14P6X
designator IC?
Integrated Circuit; Manufacturer_Name: ON Semiconductor; Manufacturer_Part_Number: NC7WZ14P6X; Datasheet Link: https://componentsearchengine.com/Datasheets/2/NC7WZ14P6X.pdf; Height: 1.1mm; Mouser Part Number: 512-NC7WZ14P6X; Mouser Price/Stock: https://www.mouser.co.uk/ProductDetail/ON-Semiconductor-Fairchild/NC7WZ14P6X?qs=UJgUk%252BlQbC30MX7FYQ6V%252BA%3D%3D; Arrow Part Number: NC7WZ14P6X; Arrow Price/Stock: https://www.arrow.com/en/products/nc7wz14p6x/on-semiconductor
footprint SOT65P210X110-6N
pins: 1 A1, 2 GND, 3 A2, 4 Y2, 5 VCC, 6 Y1

## NE555DR
designator IC?
Integrated Circuit; Manufacturer_Name: Texas Instruments; Manufacturer_Part_Number: NE555DR; Datasheet Link: http://www.ti.com/lit/ds/symlink/ne555.pdf; Height: 1.75mm; Mouser Part Number: 595-NE555DR; Mouser Price/Stock: https://www.mouser.com/Search/Refine.aspx?Keyword=595-NE555DR; RS Part Number: 1218414; RS Price/Stock: http://uk.rs-online.com/web/p/products/1218414
footprint SOIC127P600X175-8N
pins: 1 GND (power), 2 TRIG (in), 3 OUT (out), 4 ~{RESET} (in), 5 CONT (io), 6 THRES (in), 7 DISCH (out), 8 VCC (power)

## PCM5102APWR
designator IC?
Integrated Circuit; Manufacturer_Name: Texas Instruments; Manufacturer_Part_Number: PCM5102APWR; Datasheet Link: https://componentsearchengine.com/Datasheets/2/PCM5102APWR.pdf; Height: 1.2mm; Arrow Part Number: PCM5102APWR; Arrow Price/Stock: https://www.arrow.com/en/products/pcm5102apwr/texas-instruments; Mouser Part Number: 595-PCM5102APWR; Mouser Price/Stock: https://www.mouser.co.uk/ProductDetail/Texas-Instruments/PCM5102APWR?qs=E2%2FxqS9xjzrfECkwEYoiyg%3D%3D
footprint SOP65P640X120-20N
pins: 1 CPVDD, 2 CAPP, 3 CPGND, 4 CAPM, 5 VNEG, 6 OTL, 7 OUTR, 8 AVDD, 9 AGND, 10 DEMP, 11 FLT, 12 SCK, 13 BCK, 14 DIN, 15 LRCK, 16 FMT, 17 XSMT, 18 LDOO, 19 GND, 20 DVDD

## PEC11L-4225F-S0015
designator U?
Undefined or Miscellaneous; Manufacturer_Name: Bourns; Manufacturer_Part_Number: PEC11L-4225F-S0015; Datasheet Link: https://www.mouser.com/datasheet/2/54/pec11l-777793.pdf; Height: 25mm; Mouser Part Number: 652-PEC11L4225FS0015; Mouser Price/Stock: https://www.mouser.com/Search/Refine.aspx?Keyword=652-PEC11L4225FS0015
footprint PEC11L4120FS0020
pins: 1, 2, A1, B1, C1, MH1, MH2

## PEC11R-4015F-N0024
designator J?
Connector; Manufacturer_Name: Bourns; Manufacturer_Part_Number: PEC11R-4015F-N0024; Allied_Number: 70407968; Datasheet Link: https://www.bourns.com/docs/Product-Datasheets/PEC11R.pdf; Height: 22mm; Mouser Part Number: 652-PEC11R-4015F-N24; Mouser Price/Stock: https://www.mouser.com/Search/Refine.aspx?Keyword=652-PEC11R-4015F-N24; RS Part Number: 7816824P; RS Price/Stock: http://uk.rs-online.com/web/p/products/7816824P; Allied Price/Stock: https://www.alliedelec.com/bourns-pec11r-4015f-n0024/70407968/
footprint PEC11R4015FN0024
pins: A1 CHANNEL_A, B1 CHANNEL_B, C1 COMMON, MH1, MH2

## RT7258GSP
designator IC?
Integrated Circuit; Manufacturer_Name: RICHTEK; Manufacturer_Part_Number: RT7258GSP; Datasheet Link: https://www.richtek.com/assets/product_file/RT7258/DS7258-01.pdf; Height: 1.753mm
footprint SOIC127P600X175-9N
pins: 1 SW, 2 BOOT, 3 VCC, 4 BG, 5 GND, 6 FB, 7 EN/SYNC, 8 VIN, 9 EP

## RT9193-33GB
designator IC?
Integrated Circuit; Manufacturer_Name: RICHTEK; Manufacturer_Part_Number: RT9193-33GB; Datasheet Link: http://www.richtek.com/assets/product_file/RT9193/DS9193-17.pdf; Height: 1.295mm
footprint SOT94P279X130-5N
pins: 1 VIN, 2 GND, 3 EN, 4 BP, 5 VOUT

## RT9742GGJ5
designator IC?
Integrated Circuit; Manufacturer_Name: RICHTEK; Manufacturer_Part_Number: RT9742GGJ5; Datasheet Link: https://componentsearchengine.com/Datasheets/2/RT9742GGJ5.pdf; Height: 1mm
footprint SOT94P280X100-5N
pins: 1 VOUT, 2 GND, 3 ~{FLG}, 4 EN/~{EN}, 5 VIN

## RT9742SNGV
designator IC?
Integrated Circuit; Manufacturer_Name: RICHTEK; Manufacturer_Part_Number: RT9742SNGV; Datasheet Link: https://datasheet.lcsc.com/szlcsc/Richtek-Tech-RT9742ANGJ5F_C147955.pdf; Height: 1.295mm
footprint SOT95P279X130-3N
pins: 1 VIN, 2 VOUT, 3 GND

## SI2323DS-T1-GE3
designator Q?
MOSFET (P-Channel); Manufacturer_Name: Vishay; Manufacturer_Part_Number: SI2323DS-T1-GE3; Datasheet Link: https://mouser.componentsearchengine.com/Datasheets/2/SI2323DS-T1-GE3.pdf; Height: 1.12mm; Arrow Part Number: SI2323DS-T1-GE3; Arrow Price/Stock: https://www.arrow.com/en/products/si2323ds-t1-ge3/vishay; Mouser Part Number: 781-SI2323DS-T1-GE3; Mouser Price/Stock: https://www.mouser.co.uk/ProductDetail/Vishay-Semiconductors/SI2323DS-T1-GE3?qs=IRuQNBqMOcnPRxUlCX6ywQ%3D%3D
footprint SOT95P237X112-3N
pins: 1 G (in), 2 S, 3 D

## SIM7100-6-1-15-00-A
designator J?
Connector; Manufacturer_Name: GCT (GLOBAL CONNECTOR TECHNOLOGY); Manufacturer_Part_Number: SIM7100-6-1-15-00-A; Datasheet Link: https://gct.co/files/drawings/sim7100.pdf; Height: 1.5mm
footprint SIM7100611500A
pins: C1 VCC, C2 RST, C3 CLK, C4 RFU_1, C5 GND_1, C6 VPP, C7 I/O, C8 RFU_2, CD1, MP1 GND_2, MP2 GND_3, MP3 GND_4, MP4 GND_5

## SL2.1A
designator IC?
Integrated Circuit; Manufacturer_Name: CoreChips ShenZhen CO.,Ltd; Manufacturer_Part_Number: SL2.1A; Datasheet Link: https://datasheet.lcsc.com/szlcsc/1811151645_CoreChips-SL2-1A_C192893.pdf; Height: 1.85mm; Arrow Part Number: SL2.1A
footprint SOIC127P604X185-16N
pins: 1 DM4, 2 DP4, 3 DM3, 4 DP3, 5 DM2, 6 DP2, 7 DM1, 8 DP1, 9 DM, 10 DP, 11 VDD5, 12 GND, 13 VDD33, 14 VDD18, 15 XOUT, 16 XIN

## SMN-303
designator J?
Connector; Manufacturer_Name: XUNPU; Manufacturer_Part_Number: SMN-303; Datasheet Link: https://datasheet.lcsc.com/szlcsc/XUNPU-SMN-303_C266888.pdf; Height: 1.47mm
footprint SMN303
pins: C1, C2, C3, C5, C6, C7, CD1, MP1, MP2, MP3, MP4

## SN74LV4053APW
designator IC?
Integrated Circuit; Manufacturer_Name: Texas Instruments; Manufacturer_Part_Number: SN74LV4053APW; Datasheet Link: http://www.ti.com/lit/ds/symlink/sn74lv4053a.pdf; Height: 1.2mm; Mouser Part Number: 595-SN74LV4053APW; Mouser Price/Stock: https://www.mouser.co.uk/ProductDetail/Texas-Instruments/SN74LV4053APW?qs=ZA235jQDfboEgE9quEyfoA%3D%3D; Arrow Part Number: SN74LV4053APW; Arrow Price/Stock: https://www.arrow.com/en/products/sn74lv4053apw/texas-instruments
footprint SOP65P640X120-16N
pins: 1 2Y1, 2 2Y0, 3 3Y1, 4 3-COM, 5 3Y0, 6 INH, 7 GND_1, 8 GND_2, 9 C, 10 B, 11 A, 12 1Y0, 13 1Y1, 14 1-COM, 15 2-COM, 16 VCC

## SN74LV4053APWR
designator IC?
Integrated Circuit; Manufacturer_Name: Texas Instruments; Manufacturer_Part_Number: SN74LV4053APWR; Datasheet Link: http://www.ti.com/lit/gpn/sn74lv4053a; Height: 1.2mm; Mouser Part Number: 595-SN74LV4053APWR; Mouser Price/Stock: https://www.mouser.co.uk/ProductDetail/Texas-Instruments/SN74LV4053APWR?qs=j%2FZo4ajzVJLZRZtx%2FRZQ0w%3D%3D; Arrow Part Number: SN74LV4053APWR; Arrow Price/Stock: https://www.arrow.com/en/products/sn74lv4053apwr/texas-instruments
footprint SOP65P640X120-16N
pins: 1 2Y1, 2 2Y0, 3 3Y1, 4 3-COM, 5 3Y0, 6 INH, 7 GND_1, 8 GND_2, 9 C, 10 B, 11 A, 12 1Y0, 13 1Y1, 14 1-COM, 15 2-COM, 16 VCC

## SS34
designator D?
Schottky Diode; Manufacturer_Name: Taiwan Semiconductor; Manufacturer_Part_Number: SS34; Datasheet Link: https://componentsearchengine.com/Datasheets/1/SS34.pdf; Height: 2.62mm; Mouser Part Number: 821-SS34; Mouser Price/Stock: https://www.mouser.com/Search/Refine.aspx?Keyword=821-SS34
footprint DIOM7959X262N
pins: 1 K, 2 A

## SS52
designator D?
Schottky Diode; Manufacturer_Name: HY Electronic Corp; Manufacturer_Part_Number: SS52; Datasheet Link: https://www.taitroncomponents.com/catalog/Datasheet/SS52.pdf; Height: 2.62mm; RS Part Number: 9179168P; RS Price/Stock: http://uk.rs-online.com/web/p/products/9179168P
footprint DIOM7961X262N
pins: 1 K, 2 A

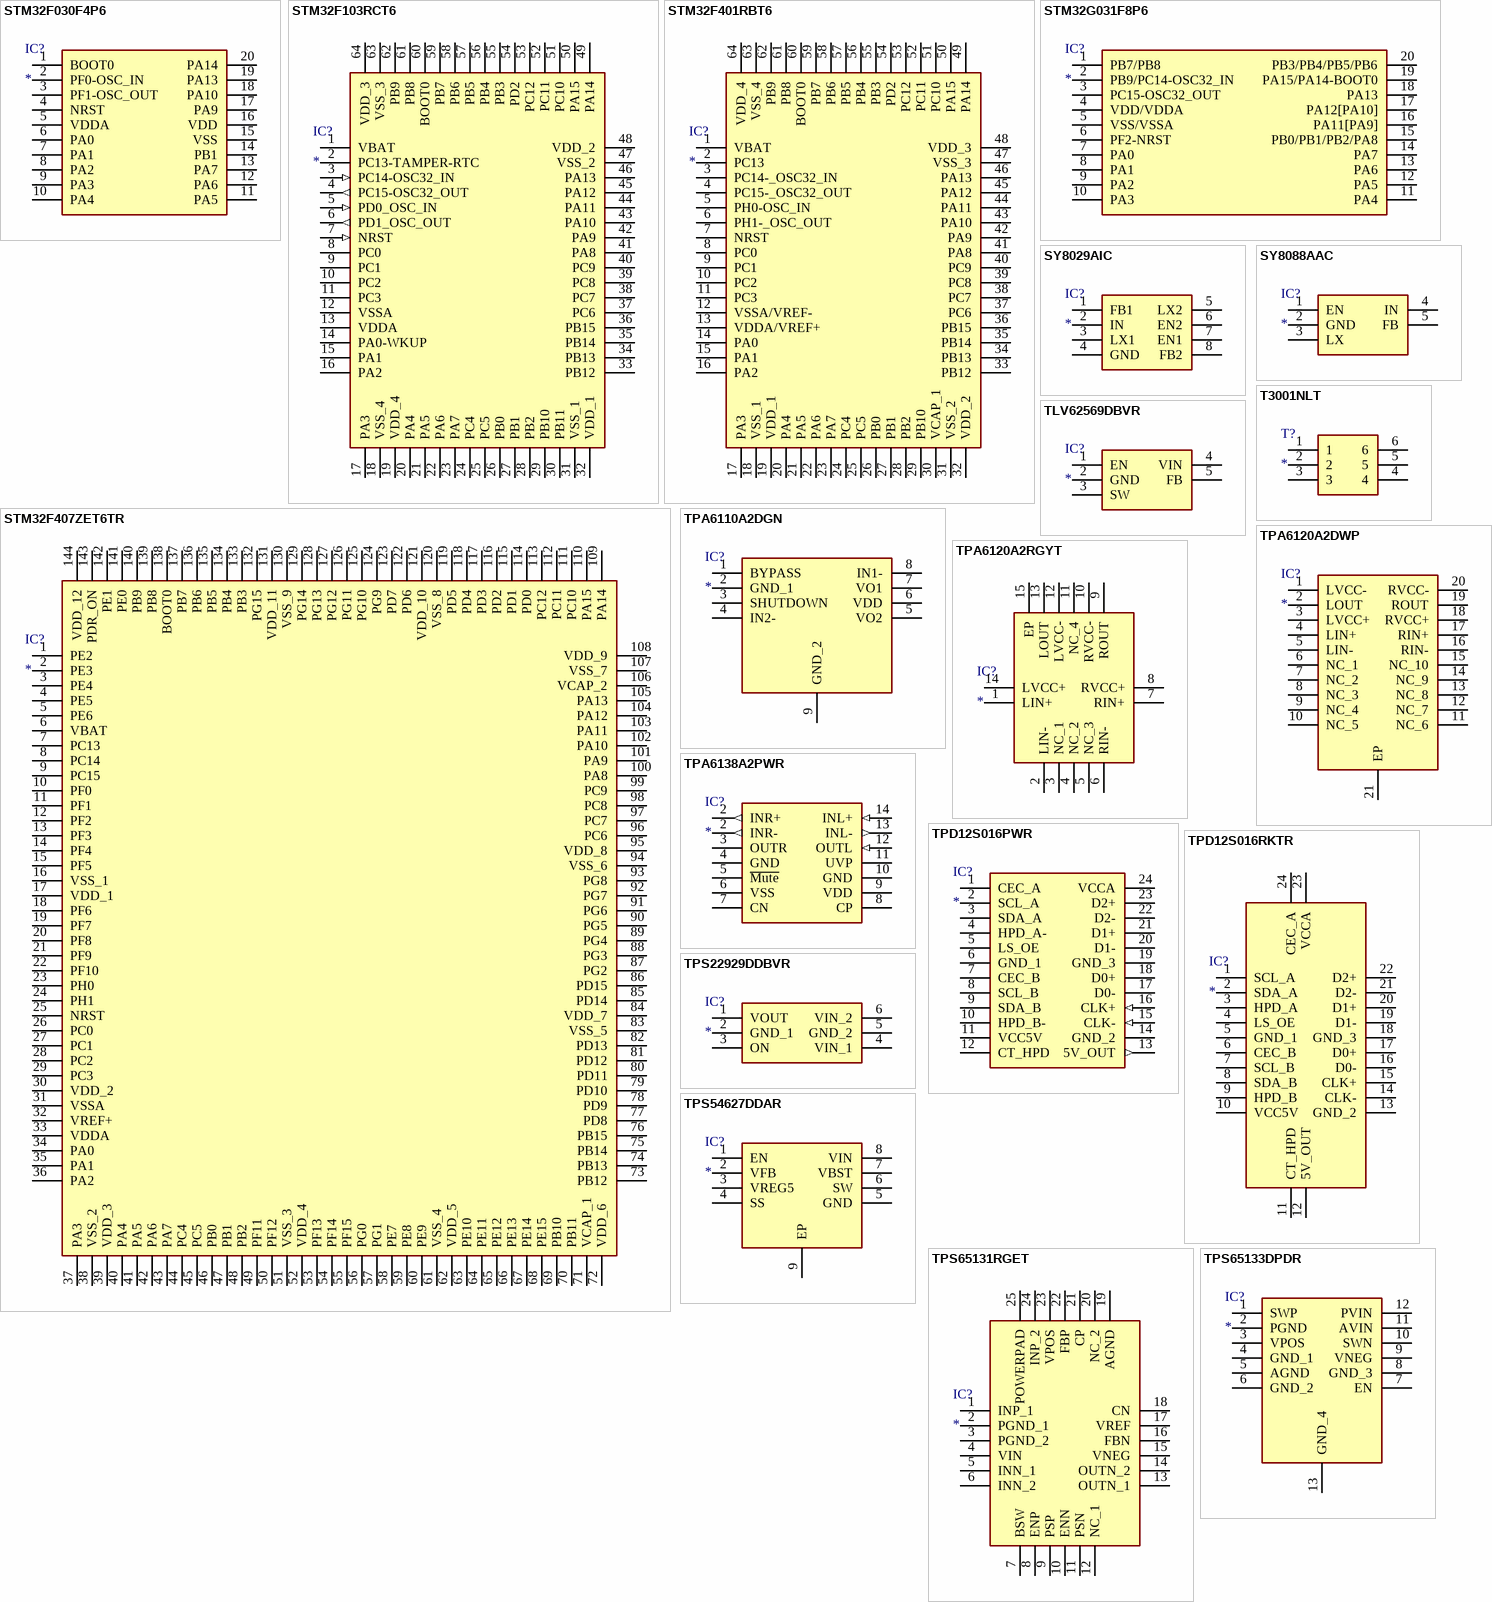
[diagram p2: symbols STM32F030F4P6 to TPS65133DPDR]

## STM32F030F4P6
designator IC?
Integrated Circuit; Manufacturer_Name: STMicroelectronics; Manufacturer_Part_Number: STM32F030F4P6; Datasheet Link: http://www.st.com/web/en/resource/technical/document/datasheet/DM00088500.pdf; Height: 1.2mm; Arrow Part Number: STM32F030F4P6; Arrow Price/Stock: https://www.arrow.com/en/products/stm32f030f4p6/stmicroelectronics; Mouser Part Number: 511-STM32F030F4P6; Mouser Price/Stock: https://www.mouser.co.uk/ProductDetail/STMicroelectronics/STM32F030F4P6?qs=eyrSuY1LhL02tVhJ92aI6g%3D%3D
footprint SOP65P640X120-20N
pins: 1 BOOT0, 2 PF0-OSC_IN, 3 PF1-OSC_OUT, 4 NRST, 5 VDDA, 6 PA0, 7 PA1, 8 PA2, 9 PA3, 10 PA4, 11 PA5, 12 PA6, 13 PA7, 14 PB1, 15 VSS, 16 VDD, 17 PA9, 18 PA10, 19 PA13, 20 PA14

## STM32F103RCT6
designator IC?
Integrated Circuit; Manufacturer_Name: STMicroelectronics; Manufacturer_Part_Number: STM32F103RCT6; Allied_Number: 70391008; Datasheet Link: http://www.st.com/st-web-ui/static/active/en/resource/technical/document/datasheet/CD00191185.pdf; Height: 1.6mm; Mouser Part Number: 511-STM32F103RCT6; Mouser Price/Stock: https://www.mouser.com/Search/Refine.aspx?Keyword=511-STM32F103RCT6; RS Part Number: 7141079P; RS Price/Stock: http://uk.rs-online.com/web/p/products/7141079P; Allied Price/Stock: http://www.alliedelec.com/stmicroelectronics-stm32f103rct6/70391008/
footprint QFP50P1200X1200X160-64N
pins: 1 VBAT, 2 PC13-TAMPER-RTC, 3 PC14-OSC32_IN (in), 4 PC15-OSC32_OUT (out), 5 PD0_OSC_IN (in), 6 PD1_OSC_OUT (out), 7 NRST (in), 8 PC0, 9 PC1, 10 PC2, 11 PC3, 12 VSSA (power), 13 VDDA (power), 14 PA0-WKUP, 15 PA1, 16 PA2, 17 PA3, 18 VSS_4 (power), 19 VDD_4 (power), 20 PA4, 21 PA5, 22 PA6, 23 PA7, 24 PC4, 25 PC5, 26 PB0, 27 PB1, 28 PB2, 29 PB10, 30 PB11, 31 VSS_1 (power), 32 VDD_1 (power), 33 PB12, 34 PB13, 35 PB14, 36 PB15, 37 PC6, 38 PC7, 39 PC8, 40 PC9, 41 PA8, 42 PA9, 43 PA10, 44 PA11, 45 PA12, 46 PA13, 47 VSS_2 (power), 48 VDD_2 (power), 49 PA14, 50 PA15, 51 PC10, 52 PC11, 53 PC12, 54 PD2, 55 PB3, 56 PB4, 57 PB5, 58 PB6, 59 PB7, 60 BOOT0, 61 PB8, 62 PB9, 63 VSS_3 (power), 64 VDD_3 (power)

## STM32F401RBT6
designator IC?
Integrated Circuit; Manufacturer_Name: STMicroelectronics; Manufacturer_Part_Number: STM32F401RBT6; Datasheet Link: http://www.st.com/web/en/resource/technical/document/datasheet/DM00086815.pdf; Height: 1.6mm; Mouser Part Number: 511-STM32F401RBT6; Mouser Price/Stock: https://www.mouser.com/Search/Refine.aspx?Keyword=511-STM32F401RBT6; Arrow Part Number: STM32F401RBT6; Arrow Price/Stock: https://www.arrow.com/en/products/stm32f401rbt6/stmicroelectronics
footprint QFP50P1200X1200X160-64N
pins: 1 VBAT, 2 PC13, 3 PC14-_OSC32_IN, 4 PC15-_OSC32_OUT, 5 PH0-OSC_IN, 6 PH1-_OSC_OUT, 7 NRST, 8 PC0, 9 PC1, 10 PC2, 11 PC3, 12 VSSA/VREF-, 13 VDDA/VREF+, 14 PA0, 15 PA1, 16 PA2, 17 PA3, 18 VSS_1, 19 VDD_1, 20 PA4, 21 PA5, 22 PA6, 23 PA7, 24 PC4, 25 PC5, 26 PB0, 27 PB1, 28 PB2, 29 PB10, 30 VCAP_1, 31 VSS_2, 32 VDD_2, 33 PB12, 34 PB13, 35 PB14, 36 PB15, 37 PC6, 38 PC7, 39 PC8, 40 PC9, 41 PA8, 42 PA9, 43 PA10, 44 PA11, 45 PA12, 46 PA13, 47 VSS_3, 48 VDD_3, 49 PA14, 50 PA15, 51 PC10, 52 PC11, 53 PC12, 54 PD2, 55 PB3, 56 PB4, 57 PB5, 58 PB6, 59 PB7, 60 BOOT0, 61 PB8, 62 PB9, 63 VSS_4, 64 VDD_4

## STM32F407ZET6TR
designator IC?
Integrated Circuit; Manufacturer_Name: STMicroelectronics; Manufacturer_Part_Number: STM32F407ZET6TR; Datasheet Link: https://4donline.ihs.com/images/VipMasterIC/IC/SGST/SGSTS30931/SGSTS30931-1.pdf?hkey=EF798316E3902B6ED9A73243A3159BB0; Height: 1.6mm
footprint QFP50P2200X2200X160-144N
pins: 1 PE2, 2 PE3, 3 PE4, 4 PE5, 5 PE6, 6 VBAT, 7 PC13, 8 PC14, 9 PC15, 10 PF0, 11 PF1, 12 PF2, 13 PF3, 14 PF4, 15 PF5, 16 VSS_1, 17 VDD_1, 18 PF6, 19 PF7, 20 PF8, 21 PF9, 22 PF10, 23 PH0, 24 PH1, 25 NRST, 26 PC0, 27 PC1, 28 PC2, 29 PC3, 30 VDD_2, 31 VSSA, 32 VREF+, 33 VDDA, 34 PA0, 35 PA1, 36 PA2, 37 PA3, 38 VSS_2, 39 VDD_3, 40 PA4, 41 PA5, 42 PA6, 43 PA7, 44 PC4, 45 PC5, 46 PB0, 47 PB1, 48 PB2, 49 PF11, 50 PF12, 51 VSS_3, 52 VDD_4, 53 PF13, 54 PF14, 55 PF15, 56 PG0, 57 PG1, 58 PE7, 59 PE8, 60 PE9, 61 VSS_4, 62 VDD_5, 63 PE10, 64 PE11, 65 PE12, 66 PE13, 67 PE14, 68 PE15, 69 PB10, 70 PB11, 71 VCAP_1, 72 VDD_6, 73 PB12, 74 PB13, 75 PB14, 76 PB15, 77 PD8, 78 PD9, 79 PD10, 80 PD11, 81 PD12, 82 PD13, 83 VSS_5, 84 VDD_7, 85 PD14, 86 PD15, 87 PG2, 88 PG3, 89 PG4, 90 PG5, 91 PG6, 92 PG7, 93 PG8, 94 VSS_6, 95 VDD_8, 96 PC6, 97 PC7, 98 PC8, 99 PC9, 100 PA8, 101 PA9, 102 PA10, 103 PA11, 104 PA12, 105 PA13, 106 VCAP_2, 107 VSS_7, 108 VDD_9, 109 PA14, 110 PA15, 111 PC10, 112 PC11, 113 PC12, 114 PD0, 115 PD1, 116 PD2, 117 PD3, 118 PD4, 119 PD5, 120 VSS_8, 121 VDD_10, 122 PD6, 123 PD7, 124 PG9, 125 PG10, 126 PG11, 127 PG12, 128 PG13, 129 PG14, 130 VSS_9, 131 VDD_11, 132 PG15, 133 PB3, 134 PB4, 135 PB5, 136 PB6, 137 PB7, 138 BOOT0, 139 PB8, 140 PB9, 141 PE0, 142 PE1, 143 PDR_ON, 144 VDD_12

## STM32G031F8P6
designator IC?
Integrated Circuit; Manufacturer_Name: STMicroelectronics; Manufacturer_Part_Number: STM32G031F8P6; Datasheet Link: https://www.mouser.com/datasheet/2/389/en.DM00371828-1620887.pdf; Height: 1.2mm; Mouser Part Number: 511-STM32G031F8P6; Mouser Price/Stock: https://www.mouser.co.uk/ProductDetail/STMicroelectronics/STM32G031F8P6?qs=uwxL4vQweFPCanBqg1D5fQ%3D%3D; Arrow Part Number: STM32G031F8P6; Arrow Price/Stock: https://www.arrow.com/en/products/stm32g031f8p6/stmicroelectronics
footprint SOP65P640X120-20N
pins: 1 PB7/PB8, 2 PB9/PC14-OSC32_IN, 3 PC15-OSC32_OUT, 4 VDD/VDDA, 5 VSS/VSSA, 6 PF2-NRST, 7 PA0, 8 PA1, 9 PA2, 10 PA3, 11 PA4, 12 PA5, 13 PA6, 14 PA7, 15 PB0/PB1/PB2/PA8, 16 PA11[PA9], 17 PA12[PA10], 18 PA13, 19 PA15/PA14-BOOT0, 20 PB3/PB4/PB5/PB6

## SY8029AIC
designator IC?
Integrated Circuit; Manufacturer_Name: Silergy Corp; Manufacturer_Part_Number: SY8029AIC; Datasheet Link: https://datasheet.lcsc.com/szlcsc/Silergy-Corp-SY8029AIC_C207636.pdf; Height: 1.1mm
footprint SOT65P280X110-8N
pins: 1 FB1, 2 IN, 3 LX1, 4 GND, 5 LX2, 6 EN2, 7 EN1, 8 FB2

## SY8088AAC
designator IC?
Integrated Circuit; Manufacturer_Name: Silergy; Manufacturer_Part_Number: SY8088AAC; Datasheet Link: https://lcsc.com/product-detail/DC-DC-Converters_Silergy_SY8088AAC_SY8088AAC_C79313.html; Height: 1.4mm
footprint SOT95P285X140-5N
pins: 1 EN, 2 GND, 3 LX, 4 IN, 5 FB

## T3001NLT
designator T?
Transformer; Manufacturer_Name: Pulse; Manufacturer_Part_Number: T3001NLT; Datasheet Link: http://productfinder.pulseeng.com/products/datasheets/T619.pdf; Height: 6mm; Mouser Part Number: 673-T3001NL673-T; Mouser Price/Stock: https://www.mouser.com/Search/Refine.aspx?Keyword=673-T3001NL673-T
footprint T3001NLT
pins: 1, 2, 3, 4, 5, 6

## TLV62569DBVR
designator IC?
Integrated Circuit; Manufacturer_Name: Texas Instruments; Manufacturer_Part_Number: TLV62569DBVR; Datasheet Link: http://www.ti.com/lit/gpn/tlv62569; Height: 1.45mm; Mouser Part Number: 595-TLV62569DBVR; Mouser Price/Stock: https://www.mouser.com/Search/Refine.aspx?Keyword=595-TLV62569DBVR
footprint SOT95P280X145-5N
pins: 1 EN, 2 GND, 3 SW, 4 VIN, 5 FB

## TPA6110A2DGN
designator IC?
Integrated Circuit; Manufacturer_Name: Texas Instruments; Manufacturer_Part_Number: TPA6110A2DGN; Datasheet Link: http://www.ti.com/lit/gpn/tpa6110a2; Height: 1.1mm; Arrow Part Number: TPA6110A2DGN; Arrow Price/Stock: https://www.arrow.com/en/products/tpa6110a2dgn/texas-instruments; Mouser Part Number: 595-TPA6110A2DGN; Mouser Price/Stock: https://www.mouser.co.uk/ProductDetail/Texas-Instruments/TPA6110A2DGN?qs=ojKcPFmCWSXEvp7P398E%2FQ%3D%3D
footprint SOP65P490X110-9N
pins: 1 BYPASS, 2 GND_1, 3 SHUTDOWN, 4 IN2-, 5 VO2, 6 VDD, 7 VO1, 8 IN1-, 9 GND_2

## TPA6120A2DWP
designator IC?
Integrated Circuit; Manufacturer_Name: Texas Instruments; Manufacturer_Part_Number: TPA6120A2DWP; Datasheet Link: http://www.ti.com/general/docs/lit/getliterature.tsp?genericPartNumber=TPA6120A2&&fileType=pdf; Height: 2.65mm; Arrow Part Number: TPA6120A2DWP; Arrow Price/Stock: https://www.arrow.com/en/products/tpa6120a2dwp/texas-instruments; Mouser Part Number: 595-TPA6120A2DWP; Mouser Price/Stock: https://www.mouser.co.uk/ProductDetail/Texas-Instruments/TPA6120A2DWP?qs=ojKcPFmCWSUNcUaivjd44w%3D%3D
footprint SOIC127P1040X265-21N
pins: 1 LVCC-, 2 LOUT, 3 LVCC+, 4 LIN+, 5 LIN-, 6 NC_1, 7 NC_2, 8 NC_3, 9 NC_4, 10 NC_5, 11 NC_6, 12 NC_7, 13 NC_8, 14 NC_9, 15 NC_10, 16 RIN-, 17 RIN+, 18 RVCC+, 19 ROUT, 20 RVCC-, 21 EP

## TPA6120A2RGYT
designator IC?
Integrated Circuit; Manufacturer_Name: Texas Instruments; Manufacturer_Part_Number: TPA6120A2RGYT; Datasheet Link: http://www.ti.com/lit/gpn/tpa6120a2; Arrow Part Number: TPA6120A2RGYT; Arrow Price/Stock: https://www.arrow.com/en/products/tpa6120a2rgyt/texas-instruments; Mouser Part Number: 595-TPA6120A2RGYT; Mouser Price/Stock: https://www.mouser.co.uk/ProductDetail/Texas-Instruments/TPA6120A2RGYT?qs=bZA2O%252B%252B1GJuCTwjuP6NvCw%3D%3D
footprint RGY-(S-PVQFN-N14)
pins: 1 LIN+, 2 LIN-, 3 NC_1, 4 NC_2, 5 NC_3, 6 RIN-, 7 RIN+, 8 RVCC+, 9 ROUT, 10 RVCC-, 11 NC_4, 12 LVCC-, 13 LOUT, 14 LVCC+, 15 EP

## TPA6138A2PWR
designator IC?
耳机驱动器; Manufacturer_Name: Texas Instruments; Manufacturer_Part_Number: TPA6138A2PW; Datasheet Link: http://www.ti.com/general/docs/lit/getliterature.tsp?genericPartNumber=tpa6139a2&fileType=pdf; Height: 1.2mm; Mouser Part Number: 595-TPA6138A2PW; Mouser Price/Stock: https://www.mouser.com/Search/Refine.aspx?Keyword=595-TPA6138A2PW; RS Part Number: 8124252P; RS Price/Stock: http://uk.rs-online.com/web/p/products/8124252P
footprint SOP65P640X120-14N
pins: 2 INR- (out), 2 INR+ (out), 3 OUTR (power), 4 GND, 5 ~{Mute} (power), 6 VSS, 7 CN, 8 CP, 9 VDD, 10 GND (power), 11 UVP (power), 12 OUTL (in), 13 INL- (out), 14 INL+ (in)

## TPD12S016PWR
designator IC?
Integrated Circuit; Manufacturer_Name: Texas Instruments; Manufacturer_Part_Number: TPD12S016PWR; Datasheet Link: http://www.ti.com/lit/ds/symlink/tpd12s016.pdf; Height: 1.2mm; Mouser Part Number: 595-TPD12S016PWR; Mouser Price/Stock: https://www.mouser.co.uk/ProductDetail/Texas-Instruments/TPD12S016PWR?qs=Brs2XCuyt3duqIFAdfG0Pg%3D%3D; RS Part Number: 8124270P; RS Price/Stock: http://uk.rs-online.com/web/p/products/8124270P
footprint SOP65P640X120-24N
pins: 1 CEC_A, 2 SCL_A, 3 SDA_A, 4 HPD_A-, 5 LS_OE, 6 GND_1 (power), 7 CEC_B, 8 SCL_B, 9 SDA_B, 10 HPD_B-, 11 VCC5V (power), 12 CT_HPD, 13 5V_OUT (out), 14 GND_2 (power), 15 CLK- (in), 16 CLK+ (in), 17 D0-, 18 D0+, 19 GND_3 (power), 20 D1-, 21 D1+, 22 D2-, 23 D2+, 24 VCCA (power)

## TPD12S016RKTR
designator IC?
Integrated Circuit; Manufacturer_Name: Texas Instruments; Manufacturer_Part_Number: TPD12S016RKTR; Datasheet Link: http://www.ti.com/lit/gpn/tpd12s016; Height: 0.55mm; Mouser Part Number: 595-TPD12S016RKTR; Mouser Price/Stock: https://www.mouser.co.uk/ProductDetail/Texas-Instruments/TPD12S016RKTR?qs=L4ss%2FyqpMWReFu%2F7Mt7A8A%3D%3D
footprint QFN40P200X400X55-24N
pins: 1 SCL_A, 2 SDA_A, 3 HPD_A, 4 LS_OE, 5 GND_1, 6 CEC_B, 7 SCL_B, 8 SDA_B, 9 HPD_B, 10 VCC5V, 11 CT_HPD, 12 5V_OUT, 13 GND_2, 14 CLK-, 15 CLK+, 16 D0-, 17 D0+, 18 GND_3, 19 D1-, 20 D1+, 21 D2-, 22 D2+, 23 VCCA, 24 CEC_A

## TPS22929DDBVR
designator IC?
Integrated Circuit; Manufacturer_Name: Texas Instruments; Manufacturer_Part_Number: TPS22929DDBVR; Datasheet Link: http://www.ti.com/lit/gpn/tps22929d; Height: 1.45mm; Mouser Part Number: 595-TPS22929DDBVR; Mouser Price/Stock: https://www.mouser.com/Search/Refine.aspx?Keyword=595-TPS22929DDBVR
footprint SOP95P280X145-6N
pins: 1 VOUT, 2 GND_1, 3 ON, 4 VIN_1, 5 GND_2, 6 VIN_2

## TPS54627DDAR
designator IC?
Integrated Circuit; Manufacturer_Name: Texas Instruments; Manufacturer_Part_Number: TPS54627DDAR; Datasheet Link: http://www.ti.com/lit/gpn/tps54627; Height: 1.7mm; Arrow Part Number: TPS54627DDAR; Arrow Price/Stock: https://www.arrow.com/en/products/tps54627ddar/texas-instruments; Mouser Part Number: 595-TPS54627DDAR; Mouser Price/Stock: https://www.mouser.com/Search/Refine.aspx?Keyword=595-TPS54627DDAR
footprint SOIC127P600X170-9N
pins: 1 EN, 2 VFB, 3 VREG5, 4 SS, 5 GND, 6 SW, 7 VBST, 8 VIN, 9 EP

## TPS65131RGET
designator IC?
Integrated Circuit; Manufacturer_Name: Texas Instruments; Manufacturer_Part_Number: TPS65131RGET; Datasheet Link: http://www.ti.com/lit/ds/symlink/tps65130.pdf; Height: 1mm; Arrow Part Number: TPS65131RGET; Arrow Price/Stock: https://www.arrow.com/en/products/tps65131rget/texas-instruments; Mouser Part Number: 595-TPS65131RGET; Mouser Price/Stock: https://www.mouser.co.uk/ProductDetail/Texas-Instruments/TPS65131RGET?qs=Gse6rAGbi7%2FStiVl23F5Fg%3D%3D
footprint QFN50P400X400X100-25N
pins: 1 INP_1, 2 PGND_1, 3 PGND_2, 4 VIN, 5 INN_1, 6 INN_2, 7 BSW, 8 ENP, 9 PSP, 10 ENN, 11 PSN, 12 NC_1, 13 OUTN_1, 14 OUTN_2, 15 VNEG, 16 FBN, 17 VREF, 18 CN, 19 AGND, 20 NC_2, 21 CP, 22 FBP, 23 VPOS, 24 INP_2, 25 POWERPAD

## TPS65133DPDR
designator IC?
Integrated Circuit; Manufacturer_Name: Texas Instruments; Manufacturer_Part_Number: TPS65133DPDR; Datasheet Link: http://www.ti.com/lit/ds/symlink/tps65133.pdf; Height: 0.8mm; Arrow Part Number: TPS65133DPDR; Arrow Price/Stock: https://www.arrow.com/en/products/tps65133dpdr/texas-instruments; Mouser Part Number: 595-TPS65133DPDR; Mouser Price/Stock: https://www.mouser.co.uk/ProductDetail/Texas-Instruments/TPS65133DPDR?qs=7GxONfNUZSjxiorxR5wfmg%3D%3D
footprint SON45P300X300X80-13N-D
pins: 1 SWP, 2 PGND, 3 VPOS, 4 GND_1, 5 AGND, 6 GND_2, 7 EN, 8 GND_3, 9 VNEG, 10 SWN, 11 AVIN, 12 PVIN, 13 GND_4

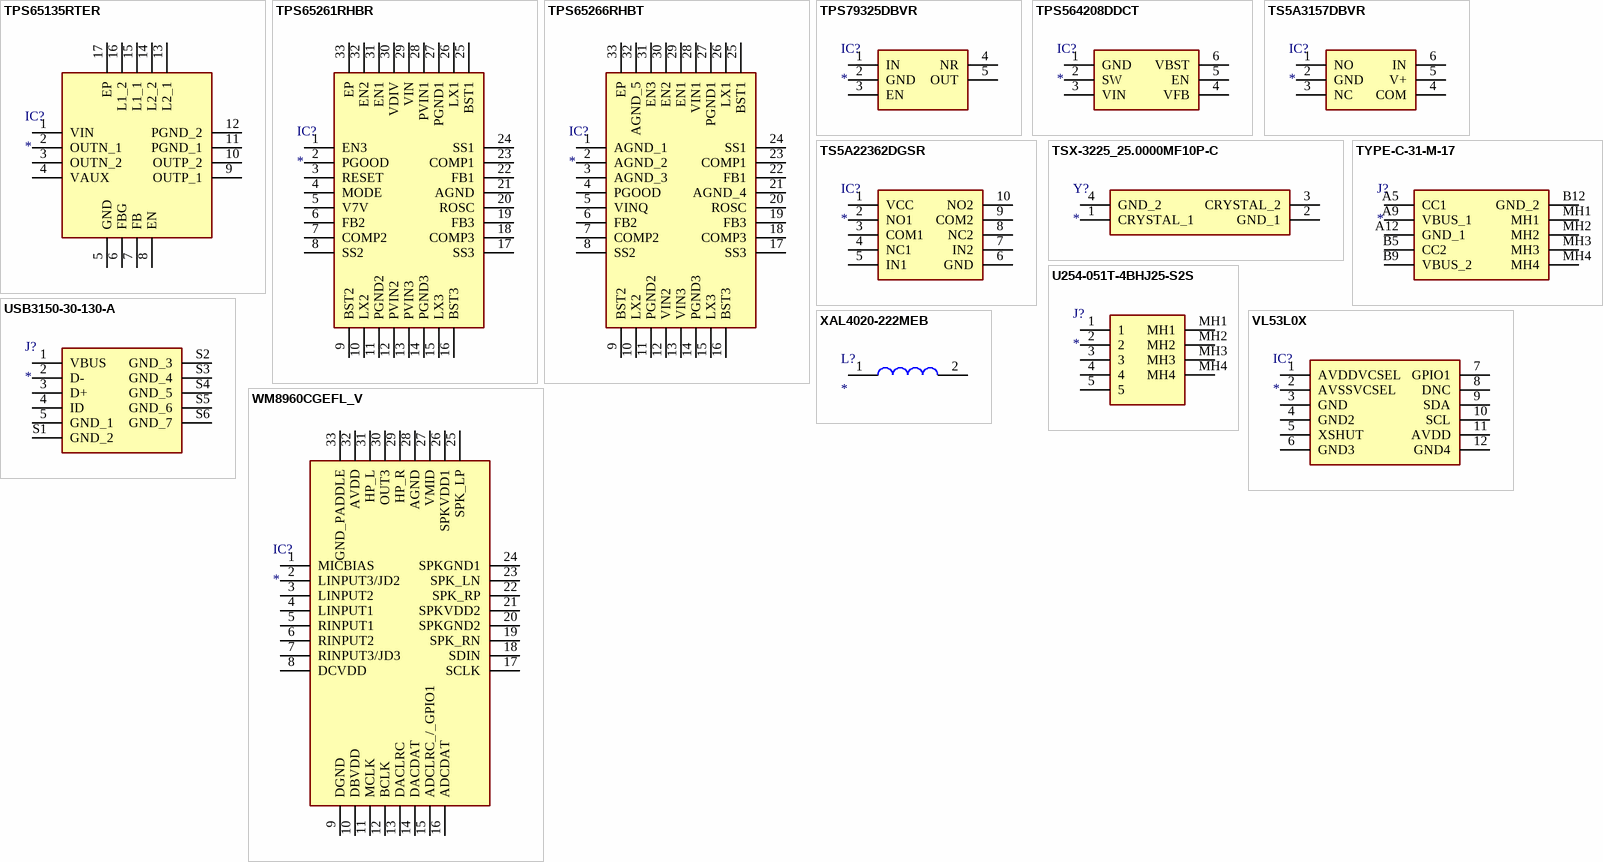
[diagram p3: symbols TPS65135RTER to XAL4020-222MEB]

## TPS65135RTER
designator IC?
Integrated Circuit; Manufacturer_Name: Texas Instruments; Manufacturer_Part_Number: TPS65135RTER; Datasheet Link: http://www.ti.com/lit/gpn/tps65135; Height: 0.8mm; Arrow Part Number: TPS65135RTER; Arrow Price/Stock: https://www.arrow.com/en/products/tps65135rter/texas-instruments; Mouser Part Number: 595-TPS65135RTER; Mouser Price/Stock: https://www.mouser.co.uk/ProductDetail/Texas-Instruments/TPS65135RTER?qs=bS0R8qMSxJPTFpD2v51qPQ%3D%3D
footprint QFN50P300X300X80-17N-D
pins: 1 VIN, 2 OUTN_1, 3 OUTN_2, 4 VAUX, 5 GND, 6 FBG, 7 FB, 8 EN, 9 OUTP_1, 10 OUTP_2, 11 PGND_1, 12 PGND_2, 13 L2_1, 14 L2_2, 15 L1_1, 16 L1_2, 17 EP

## TPS65261RHBR
designator IC?
Integrated Circuit; Manufacturer_Name: Texas Instruments; Manufacturer_Part_Number: TPS65261RHBR; Datasheet Link: http://www.ti.com/lit/gpn/tps65261; Height: 1mm; Mouser Part Number: 595-TPS65261RHBR; Mouser Price/Stock: https://www.mouser.com/Search/Refine.aspx?Keyword=595-TPS65261RHBR
footprint QFN50P500X500X100-33N-D
pins: 1 EN3, 2 PGOOD, 3 RESET, 4 MODE, 5 V7V, 6 FB2, 7 COMP2, 8 SS2, 9 BST2, 10 LX2, 11 PGND2, 12 PVIN2, 13 PVIN3, 14 PGND3, 15 LX3, 16 BST3, 17 SS3, 18 COMP3, 19 FB3, 20 ROSC, 21 AGND, 22 FB1, 23 COMP1, 24 SS1, 25 BST1, 26 LX1, 27 PGND1, 28 PVIN1, 29 VIN, 30 VDIV, 31 EN1, 32 EN2, 33 EP